# EAGLE library part AT93C*6D (library ic-ATMEL)
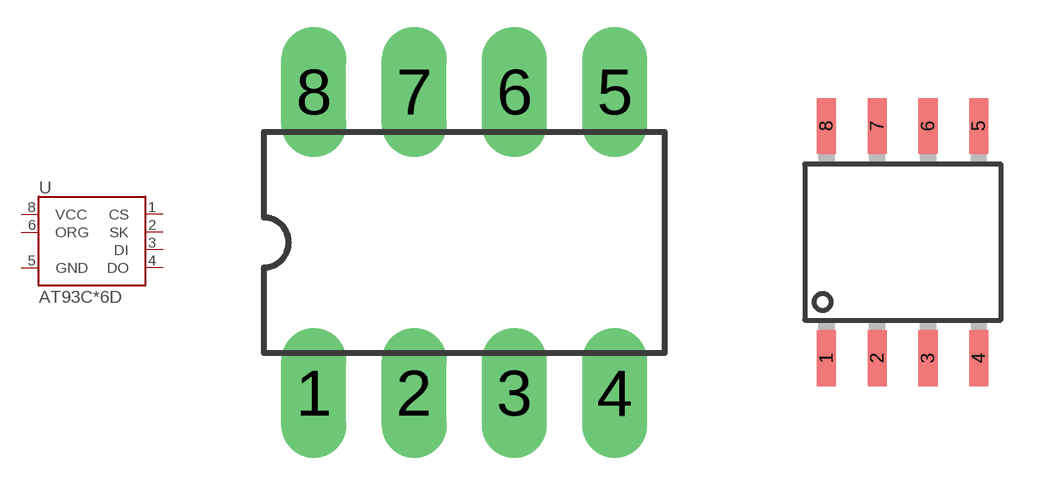
[diagram p2: symbol with the pads of DIP8; footprints DIP8, SOP8]

Designator prefix U

## AT93C46D-PU  [DIP8]
1  CS
2  SK
3  DI
4  DO
5  GND
6  ORG
8  VCC

## AT93C46DN-SH  [SOP8]
Pads as for DIP8

## Footprint DIP8 (pad centres in mm)
Dual In Line
drill 1.1 long: 1 -3.81,-3.81; 2 -1.27,-3.81; 3 1.27,-3.81; 4 3.81,-3.81; 5 3.81,3.81; 6 1.27,3.81; 7 -1.27,3.81; 8 -3.81,3.81

## Footprint SOP8 (pad centres in mm)
smd 0.48 x 1.4: 1 -1.905,-2.9; 2 -0.635,-2.9; 3 0.635,-2.9; 4 1.905,-2.9; 5 1.905,2.9; 6 0.635,2.9; 7 -0.635,2.9; 8 -1.905,2.9